# Altium footprint library SIMA.PcbLib: 8 footprints
Each footprint in its own frame and in the unit in brackets; x right, y up, seen from the top. Pads: shape width x height; smd on the part's side, far side on the other; paste and mask are expansions set on the pad; w line width, h text height; cw(c..) or ccw(c..) is an arc to the next point about the centre after c.
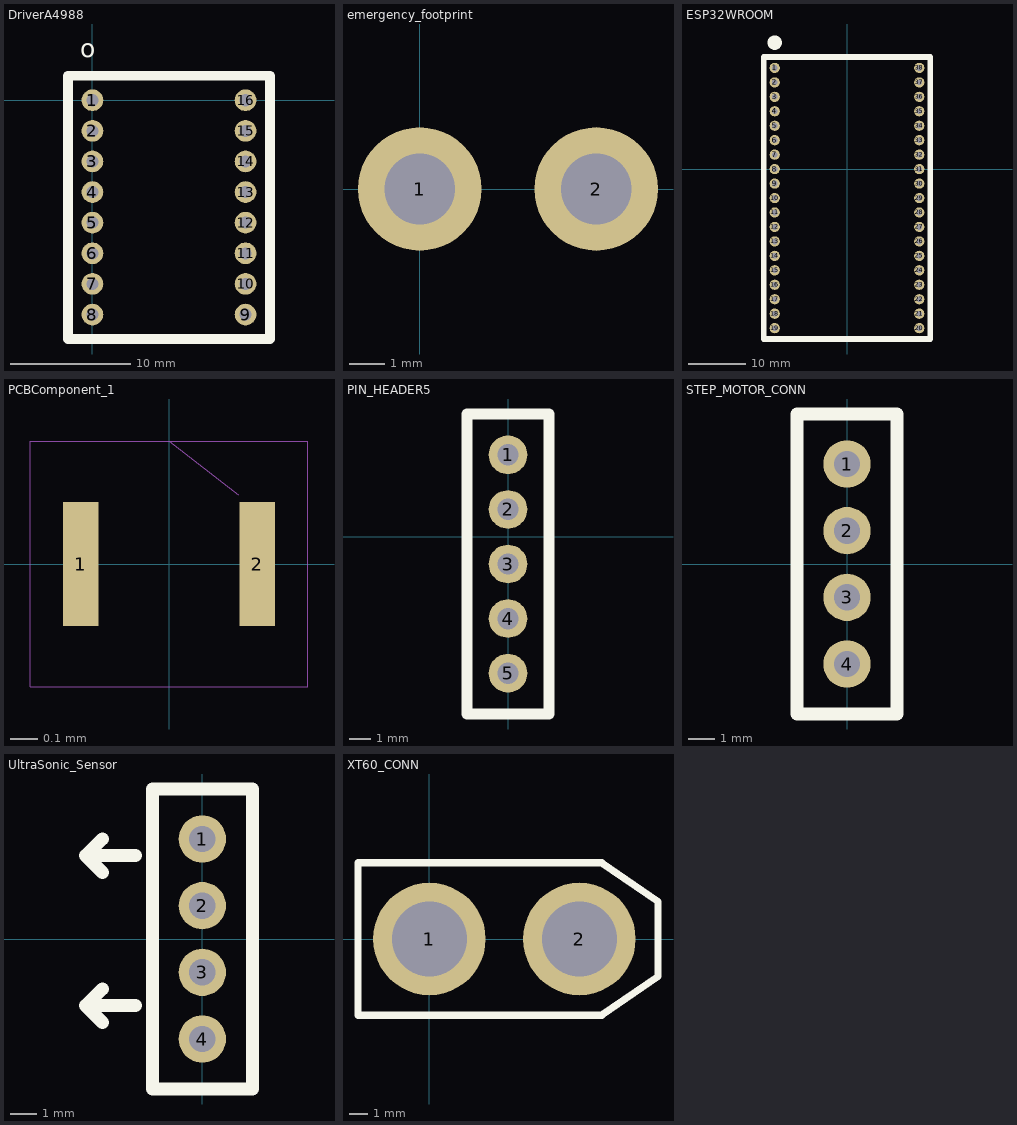
[diagram p0: the footprints below, top view; thin cyan lines are the x and y axes]

## DriverA4988 [mm]
pads (16):
  round 1.8 hole 1: 1(0,0) 2(0,-2.54) 3(0,-5.08) 4(0,-7.62) 5(0,-10.16) 6(0,-12.7) 7(0,-15.24) 8(0,-17.78) 9(12.7,-17.78) 10(12.7,-15.24) 11(12.7,-12.7) 12(12.7,-10.16) 13(12.7,-7.62) 14(12.7,-5.08) 15(12.7,-2.54) 16(12.7,0)
Top Overlay:
  lines w0.8: -2.032,-19.812 -2.032,2.032 14.732,2.032 14.732,-19.812 -2.032,-19.812
  text "o" at -1.016,3.556 h1.52

## emergency_footprint [mm]
pads (2):
  round 3.5 hole 2: 1(0,0) 2(5,0)

## ESP32WROOM [mm]
pads (38):
  round 1.8 hole 1: 1(-12.7,17.78) 2(-12.7,15.24) 3(-12.7,12.7) 4(-12.7,10.16) 5(-12.7,7.62) 6(-12.7,5.08) 7(-12.7,2.54) 8(-12.7,0) 9(-12.7,-2.54) 10(-12.7,-5.08) 11(-12.7,-7.62) 12(-12.7,-10.16) 13(-12.7,-12.7) 14(-12.7,-15.24) 15(-12.7,-17.78) 16(-12.7,-20.32) 17(-12.7,-22.86) 18(-12.7,-25.4) 19(-12.7,-27.94) 20(12.7,-27.94) 21(12.7,-25.4) 22(12.7,-22.86) 23(12.7,-20.32) 24(12.7,-17.78) 25(12.7,-15.24) 26(12.7,-12.7) 27(12.7,-10.16) 28(12.7,-7.62) 29(12.7,-5.08) 30(12.7,-2.54) 31(12.7,0) 32(12.7,2.54) 33(12.7,5.08) 34(12.7,7.62) 35(12.7,10.16) 36(12.7,12.7) 37(12.7,15.24) 38(12.7,17.78)
Top Overlay:
  circle w1.27: c-12.7,22.225 r0.635
  lines w1: -14.605,-29.845 14.605,-29.845 14.605,19.685 -14.605,19.685 -14.605,6.985 -14.605,-29.845

## PCBComponent_1 [mm]
pads (2):
  rect 0.13x0.452 smd: 1(-0.323,0) 2(0.323,0)
Top Assembly:
  lines w0.004: 0,0.45 0.254,0.254 ; -0.508,-0.45 -0.508,0.45 0.508,0.45 0.508,-0.45 -0.508,-0.45

## PIN_HEADER5 [mm]
pads (5):
  round 1.8 hole 1: 1(0,3.81) 2(0,1.27) 3(0,-1.27) 4(0,-3.81) 5(0,-6.35)
Top Overlay:
  lines w0.5: -1.905,-8.255 -1.905,5.715 -1.27,5.715 1.905,5.715 1.905,-8.255 -1.905,-8.255

## STEP_MOTOR_CONN [mm]
pads (4):
  round 1.8 hole 1: 1(0,3.81) 2(0,1.27) 3(0,-1.27) 4(0,-3.81)
Top Overlay:
  lines w0.5: -1.905,-5.715 1.905,-5.715 1.905,5.715 -1.27,5.715 -1.905,5.715 -1.905,-5.715

## UltraSonic_Sensor [mm]
pads (4):
  round 1.8 hole 1: 1(0,3.81) 2(0,1.27) 3(0,-1.27) 4(0,-3.81)
Top Overlay:
  lines w0.5: -3.81,-3.175 -4.445,-2.54 ; -3.81,2.54 -4.445,3.175 ; -3.81,3.81 -4.445,3.175 ; -2.54,-2.54 -3.175,-2.54 -4.445,-2.54 ; -2.54,3.175 -3.175,3.175 -4.445,3.175 ; -4.445,-2.54 -3.81,-1.905 -4.445,-2.54 ; -1.905,-5.715 1.905,-5.715 1.905,5.715 -1.27,5.715 -1.905,5.715 -1.905,-5.715

## XT60_CONN [mm]
pads (2):
  round 6 hole 4: 1(0,0) 2(8,0)
Top Overlay:
  lines w0.381: -3.81,-4.064 -3.81,4.064 9.19,4.064 12.19,2 12.19,-2 9.19,-4.064 -3.81,-4.064